# EAGLE library part FORGE7SEG (library jasons_stuff)
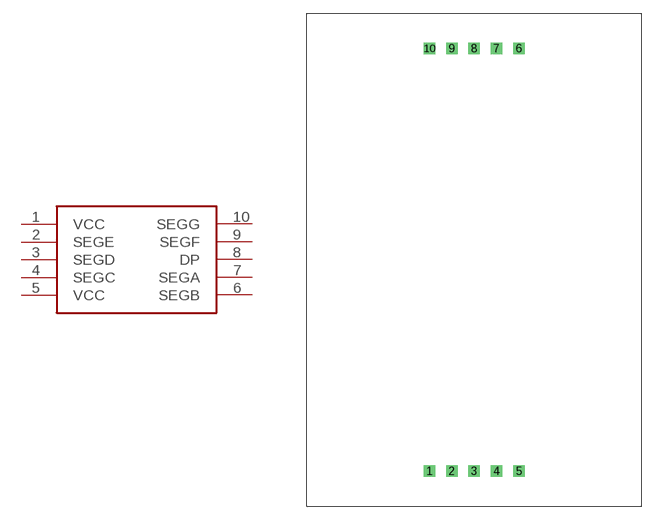
[diagram p21: symbol with the pads of FORGE7SEG; footprint FORGE7SEG]

Designator prefix -

## FORGE7SEG  [FORGE7SEG]
1  VCC
2  SEGE
3  SEGD
4  SEGC
5  VCC
6  SEGB
7  SEGA
8  DP
9  SEGF
10  SEGG

## Footprint FORGE7SEG (pad centres in mm)
drill 0.8 square: 1 13.92,4; 2 16.46,4; 3 19,4; 4 21.54,4; 5 24.08,4; 6 24.08,52; 7 21.54,52; 8 19,52; 9 16.46,52; 10 13.92,52